# Altium integrated library WE-VE ESD Suppressor.IntLib: 21 symbols
Pins are listed as number, name and electrical type; pins without a type are passive.

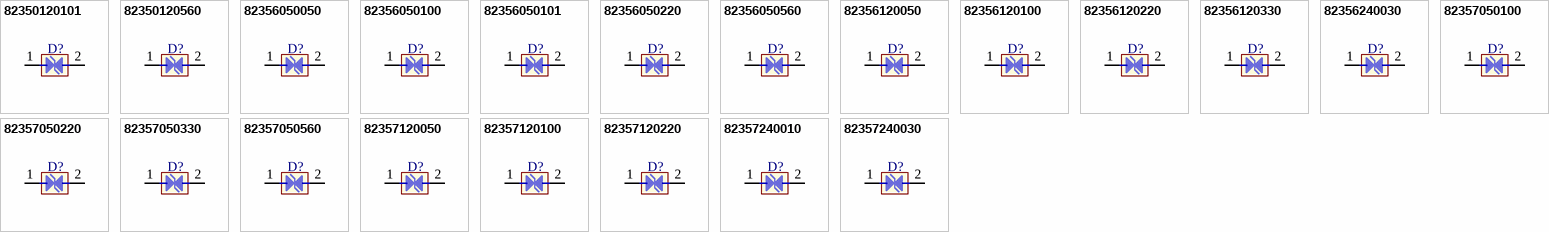
[diagram p0: symbols 82350120101 to 82357240030]

## 82350120101
designator D?
ESD Suppressor WE-VE,VDC=12.0V; PartNumber: 82350120101; Reverse Stand Off Voltage: 12.0V; PackageReference: 0805; ComponentLink1Description: Manufacturer URL; ComponentLink1URL: http://www.we-online.com; ComponentLink2Description: Datasheet; ComponentLink2URL: http://katalog.we-online.de/kataloge/eisos/media/pdf/82350120101.pdf
footprint 0805 (0805, 2-Leads, Body 4.7x1.8mm, Pitch 3mm)
pins: 1 I/O1, 2 I/O2

## 82350120560
designator D?
ESD Suppressor WE-VE,VDC=12.0V; PartNumber: 82350120560; Reverse Stand Off Voltage: 12.0V; PackageReference: 0805; ComponentLink1Description: Manufacturer URL; ComponentLink1URL: http://www.we-online.com; ComponentLink2Description: Datasheet; ComponentLink2URL: http://katalog.we-online.de/kataloge/eisos/media/pdf/82350120560.pdf
footprint 0805 (0805, 2-Leads, Body 4.7x1.8mm, Pitch 3mm)
pins: 1 I/O1, 2 I/O2

## 82356050050
designator D?
ESD Suppressor WE-VE, VDC=5.0V; PartNumber: 82356050050; Reverse Stand Off Voltage: 5.0V; PackageReference: 0603; ComponentLink1Description: Manufacturer URL; ComponentLink1URL: http://www.we-online.com; ComponentLink2Description: Datasheet; ComponentLink2URL: http://katalog.we-online.de/kataloge/eisos/media/pdf/82356050050.pdf
footprint 0603 (0603, 2-Leads, Body 3.6x1.4mm, Pitch 2.3mm)
pins: 1 I/O1, 2 I/O2

## 82356050100
designator D?
ESD Suppressor WE-VE, VDC=5.0V; PartNumber: 82356050100; Reverse Stand Off Voltage: 5.0V; PackageReference: 0603; ComponentLink1Description: Manufacturer URL; ComponentLink1URL: http://www.we-online.com; ComponentLink2Description: Datasheet; ComponentLink2URL: http://katalog.we-online.de/kataloge/eisos/media/pdf/82356050100.pdf
footprint 0603 (0603, 2-Leads, Body 3.6x1.4mm, Pitch 2.3mm)
pins: 1 I/O1, 2 I/O2

## 82356050101
designator D?
ESD Suppressor WE-VE,VDC=5.0V; PartNumber: 82356050101; Reverse Stand Off Voltage: 5.0V; PackageReference: 0603; ComponentLink1Description: Manufacturer URL; ComponentLink1URL: http://www.we-online.com; ComponentLink2Description: Datasheet; ComponentLink2URL: http://katalog.we-online.de/kataloge/eisos/media/pdf/82356050101.pdf
footprint 0603 (0603, 2-Leads, Body 3.6x1.4mm, Pitch 2.3mm)
pins: 1 I/O1, 2 I/O2

## 82356050220
designator D?
ESD Suppressor WE-VE, VDC=5.0V; PartNumber: 82356050220; Reverse Stand Off Voltage: 5.0V; PackageReference: 0603; ComponentLink1Description: Manufacturer URL; ComponentLink1URL: http://www.we-online.com; ComponentLink2Description: Datasheet; ComponentLink2URL: http://katalog.we-online.de/kataloge/eisos/media/pdf/82356050220.pdf
footprint 0603 (0603, 2-Leads, Body 3.6x1.4mm, Pitch 2.3mm)
pins: 1 I/O1, 2 I/O2

## 82356050560
designator D?
ESD Suppressor WE-VE,VDC=5.0V; PartNumber: 82356050560; Reverse Stand Off Voltage: 5.0V; PackageReference: 0603; ComponentLink1Description: Manufacturer URL; ComponentLink1URL: http://www.we-online.com; ComponentLink2Description: Datasheet; ComponentLink2URL: http://katalog.we-online.de/kataloge/eisos/media/pdf/82356050560.pdf
footprint 0603 (0603, 2-Leads, Body 3.6x1.4mm, Pitch 2.3mm)
pins: 1 I/O1, 2 I/O2

## 82356120050
designator D?
ESD Suppressor WE-VE,VDC=12.0V; PartNumber: 82356120050; Reverse Stand Off Voltage: 12.0V; PackageReference: 0603; ComponentLink1Description: Manufacturer URL; ComponentLink1URL: http://www.we-online.com; ComponentLink2Description: Datasheet; ComponentLink2URL: http://katalog.we-online.de/kataloge/eisos/media/pdf/82356120050.pdf
footprint 0603 (0603, 2-Leads, Body 3.6x1.4mm, Pitch 2.3mm)
pins: 1 I/O1, 2 I/O2

## 82356120100
designator D?
ESD Suppressor WE-VE,VDC=12.0V; PartNumber: 82356120100; Reverse Stand Off Voltage: 12.0V; PackageReference: 0603; ComponentLink1Description: Manufacturer URL; ComponentLink1URL: http://www.we-online.com; ComponentLink2Description: Datasheet; ComponentLink2URL: http://katalog.we-online.de/kataloge/eisos/media/pdf/82356120100.pdf
footprint 0603 (0603, 2-Leads, Body 3.6x1.4mm, Pitch 2.3mm)
pins: 1 I/O1, 2 I/O2

## 82356120220
designator D?
ESD Suppressor WE-VE,VDC=12.0V; PartNumber: 82356120220; Reverse Stand Off Voltage: 12.0V; PackageReference: 0603; ComponentLink1Description: Manufacturer URL; ComponentLink1URL: http://www.we-online.com; ComponentLink2Description: Datasheet; ComponentLink2URL: http://katalog.we-online.de/kataloge/eisos/media/pdf/82356120220.pdf
footprint 0603 (0603, 2-Leads, Body 3.6x1.4mm, Pitch 2.3mm)
pins: 1 I/O1, 2 I/O2

## 82356120330
designator D?
ESD Suppressor WE-VE,VDC=12.0V; PartNumber: 82356120330; Reverse Stand Off Voltage: 12.0V; PackageReference: 0603; ComponentLink1Description: Manufacturer URL; ComponentLink1URL: http://www.we-online.com; ComponentLink2Description: Datasheet; ComponentLink2URL: http://katalog.we-online.de/kataloge/eisos/media/pdf/82356120330.pdf
footprint 0603 (0603, 2-Leads, Body 3.6x1.4mm, Pitch 2.3mm)
pins: 1 I/O1, 2 I/O2

## 82356240030
designator D?
ESD Suppressor WE-VE,VDC=24.0V; PartNumber: 82356240030; Reverse Stand Off Voltage: 24.0V; PackageReference: 0603; ComponentLink1Description: Manufacturer URL; ComponentLink1URL: http://www.we-online.com; ComponentLink2Description: Datasheet; ComponentLink2URL: http://katalog.we-online.de/kataloge/eisos/media/pdf/82356240030.pdf
footprint 0603 (0603, 2-Leads, Body 3.6x1.4mm, Pitch 2.3mm)
pins: 1 I/O1, 2 I/O2

## 82357050100
designator D?
ESD Suppressor WE-VE, VDC=5.0V; PartNumber: 82357050100; Reverse Stand Off Voltage: 5.0V; PackageReference: 0402; ComponentLink1Description: Manufacturer URL; ComponentLink1URL: http://www.we-online.com; ComponentLink2Description: Datasheet; ComponentLink2URL: http://katalog.we-online.de/kataloge/eisos/media/pdf/82357050100.pdf
footprint 0402 (0402, 2-Leads, Body 2.3x0.7mm, Pitch 1.4mm)
pins: 1 I/O1, 2 I/O2

## 82357050220
designator D?
ESD Suppressor WE-VE, VDC=5.0V; PartNumber: 82357050220; Reverse Stand Off Voltage: 5.0V; PackageReference: 0402; ComponentLink1Description: Manufacturer URL; ComponentLink1URL: http://www.we-online.com; ComponentLink2Description: Datasheet; ComponentLink2URL: http://katalog.we-online.de/kataloge/eisos/media/pdf/82357050220.pdf
footprint 0402 (0402, 2-Leads, Body 2.3x0.7mm, Pitch 1.4mm)
pins: 1 I/O1, 2 I/O2

## 82357050330
designator D?
ESD Suppressor WE-VE, VDC=5.0V; PartNumber: 82357050330; Reverse Stand Off Voltage: 5.0V; PackageReference: 0402; ComponentLink1Description: Manufacturer URL; ComponentLink1URL: http://www.we-online.com; ComponentLink2Description: Datasheet; ComponentLink2URL: http://katalog.we-online.de/kataloge/eisos/media/pdf/82357050330.pdf
footprint 0402 (0402, 2-Leads, Body 2.3x0.7mm, Pitch 1.4mm)
pins: 1 I/O1, 2 I/O2

## 82357050560
designator D?
ESD Suppressor WE-VE, VDC=5.0V; PartNumber: 82357050560; Reverse Stand Off Voltage: 5.0V; PackageReference: 0402; ComponentLink1Description: Manufacturer URL; ComponentLink1URL: http://www.we-online.com; ComponentLink2Description: Datasheet; ComponentLink2URL: http://katalog.we-online.de/kataloge/eisos/media/pdf/82357050560.pdf
footprint 0402 (0402, 2-Leads, Body 2.3x0.7mm, Pitch 1.4mm)
pins: 1 I/O1, 2 I/O2

## 82357120050
designator D?
ESD Suppressor WE-VE, VDC=12.0V; PartNumber: 82357120050; Reverse Stand Off Voltage: 12.0V; PackageReference: 0402; ComponentLink1Description: Manufacturer URL; ComponentLink1URL: http://www.we-online.com; ComponentLink2Description: Datasheet; ComponentLink2URL: http://katalog.we-online.de/kataloge/eisos/media/pdf/82357120050.pdf
footprint 0402 (0402, 2-Leads, Body 2.3x0.7mm, Pitch 1.4mm)
pins: 1 I/O1, 2 I/O2

## 82357120100
designator D?
ESD Suppressor WE-VE, VDC=12.0V; PartNumber: 82357120100; Reverse Stand Off Voltage: 12.0V; PackageReference: 0402; ComponentLink1Description: Manufacturer URL; ComponentLink1URL: http://www.we-online.com; ComponentLink2Description: Datasheet; ComponentLink2URL: http://katalog.we-online.de/kataloge/eisos/media/pdf/82357120100.pdf
footprint 0402 (0402, 2-Leads, Body 2.3x0.7mm, Pitch 1.4mm)
pins: 1 I/O1, 2 I/O2

## 82357120220
designator D?
ESD Suppressor WE-VE, VDC=12.0V; PartNumber: 82357120220; Reverse Stand Off Voltage: 12.0V; PackageReference: 0402; ComponentLink1Description: Manufacturer URL; ComponentLink1URL: http://www.we-online.com; ComponentLink2Description: Datasheet; ComponentLink2URL: http://katalog.we-online.de/kataloge/eisos/media/pdf/82357120220.pdf
footprint 0402 (0402, 2-Leads, Body 2.3x0.7mm, Pitch 1.4mm)
pins: 1 I/O1, 2 I/O2

## 82357240010
designator D?
ESD Suppressor WE-VE, VDC=24.0V; PartNumber: 82357240010; Reverse Stand Off Voltage: 24.0V; PackageReference: 0402; ComponentLink1Description: Manufacturer URL; ComponentLink1URL: http://www.we-online.com; ComponentLink2Description: Datasheet; ComponentLink2URL: http://katalog.we-online.de/kataloge/eisos/media/pdf/82357240010.pdf
footprint 0402 (0402, 2-Leads, Body 2.3x0.7mm, Pitch 1.4mm)
pins: 1 I/O1, 2 I/O2

## 82357240030
designator D?
ESD Suppressor WE-VE, VDC=24.0V; PartNumber: 82357240030; Reverse Stand Off Voltage: 24.0V; PackageReference: 0402; ComponentLink1Description: Manufacturer URL; ComponentLink1URL: http://www.we-online.com; ComponentLink2Description: Datasheet; ComponentLink2URL: http://katalog.we-online.de/kataloge/eisos/media/pdf/82357240030.pdf
footprint 0402 (0402, 2-Leads, Body 2.3x0.7mm, Pitch 1.4mm)
pins: 1 I/O1, 2 I/O2